# Altium footprint library VSSOP-10.PcbLib: 1 footprints
Each footprint in its own frame and in the unit in brackets; x right, y up, seen from the top. Pads: shape width x height; smd on the part's side, far side on the other; paste and mask are expansions set on the pad; w line width, h text height; cw(c..) or ccw(c..) is an arc to the next point about the centre after c.
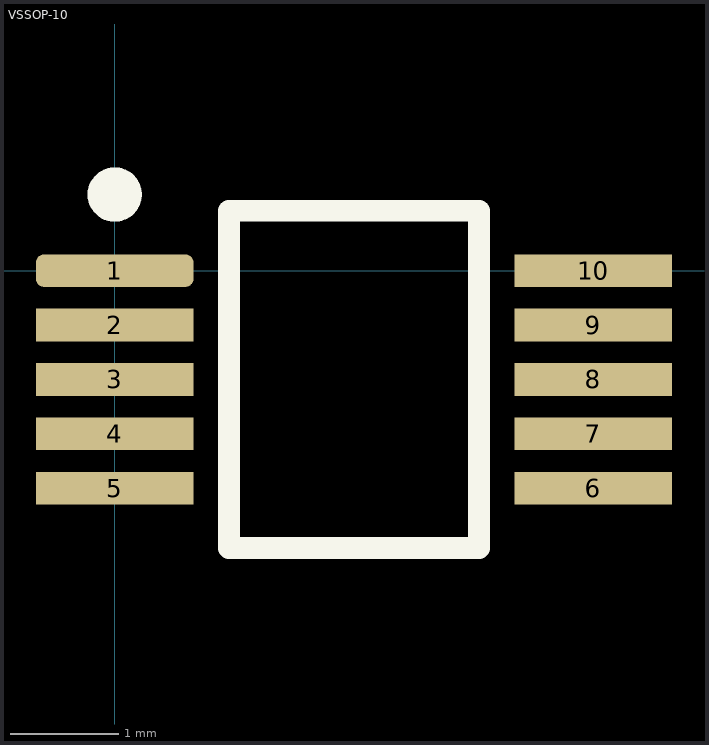
[diagram p0: the footprint, top view; thin cyan lines are the x and y axes]

## VSSOP-10 [mm] "Small Outline Package, 10-pin, 3x3mm, 1.1mm height"
height 1.1
pads (10):
  rrect50% 1.45x0.3 smd: 1(0,0)
  rect 1.45x0.3 smd: 2(0,-0.5) 3(0,-1) 4(0,-1.5) 5(0,-2) 6(4.4,-2) 7(4.4,-1.5) 8(4.4,-1) 9(4.4,-0.5) 10(4.4,0)
Top Overlay:
  circle w0.25: c0,0.7 r0.125
  lines w0.2: 1.05,-2.55 1.05,0.55 3.35,0.55 3.35,-2.55 1.05,-2.55
3D body "VSSOP-8.step": height 1.1, standoff 0, extent -0.25,-2.55 4.65,0.55